# Altium footprint library Sensor_Gsprint.PcbLib: 3 footprints
Each footprint in its own frame and in the unit in brackets; x right, y up, seen from the top. Pads: shape width x height; smd on the part's side, far side on the other; paste and mask are expansions set on the pad; w line width, h text height; cw(c..) or ccw(c..) is an arc to the next point about the centre after c.
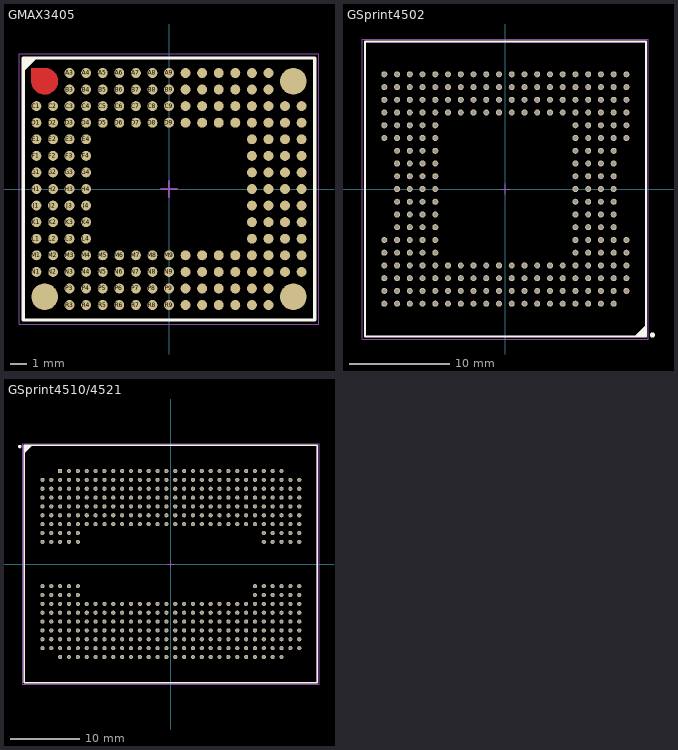
[diagram p0: the footprints below, top view; thin cyan lines are the x and y axes]

## GMAX3405 [mm] "LGA, 81-Leads, Body 17.60x15.80mmx1.80mm, Pitch 1.00mm"
height 1.8
pads (180):
  round 0.6 smd mask+0.1: A3(-6,7) A4(-5,7) A5(-4,7) A6(-3,7) A7(-2,7) A8(-1,7) A9(0,7) A10(1,7) A11(2,7) A12(3,7) A13(4,7) A14(5,7) A15(6,7) B3(-6,6) B4(-5,6) B5(-4,6) B6(-3,6) B7(-2,6) B8(-1,6) B9(0,6) B10(1,6) B11(2,6) B12(3,6) B13(4,6) B14(5,6) B15(6,6) C1(-8,5) C2(-7,5) C3(-6,5) C4(-5,5) C5(-4,5) C6(-3,5) C7(-2,5) C8(-1,5) C9(0,5) C10(1,5) C11(2,5) C12(3,5) C13(4,5) C14(5,5) C15(6,5) C16(7,5) C17(8,5) D1(-8,4) D2(-7,4) D3(-6,4) D4(-5,4) D5(-4,4) D6(-3,4) D7(-2,4) D8(-1,4) D9(0,4) D10(1,4) D11(2,4) D12(3,4) D13(4,4) D14(5,4) D15(6,4) D16(7,4) D17(8,4) E1(-8,3) E2(-7,3) E3(-6,3) E4(-5,3) E14(5,3) E15(6,3) E16(7,3) E17(8,3) F1(-8,2) F2(-7,2) F3(-6,2) F4(-5,2) F14(5,2) F15(6,2) F16(7,2) F17(8,2) G1(-8,1) G2(-7,1) G3(-6,1) G4(-5,1) G14(5,1) G15(6,1) G16(7,1) G17(8,1) H1(-8,0) H2(-7,0) H3(-6,0) H4(-5,0) H14(5,0) H15(6,0) H16(7,0) H17(8,0) J1(-8,-1) J2(-7,-1) J3(-6,-1) J4(-5,-1) J14(5,-1) J15(6,-1) J16(7,-1) J17(8,-1) K1(-8,-2) K2(-7,-2) K3(-6,-2) K4(-5,-2) K14(5,-2) K15(6,-2) K16(7,-2) K17(8,-2) L1(-8,-3) L2(-7,-3) L3(-6,-3) L4(-5,-3) L14(5,-3) L15(6,-3) L16(7,-3) L17(8,-3) M1(-8,-4) M2(-7,-4) M3(-6,-4) M4(-5,-4) M5(-4,-4) M6(-3,-4) M7(-2,-4) M8(-1,-4) M9(0,-4) M10(1,-4) M11(2,-4) M12(3,-4) M13(4,-4) M14(5,-4) M15(6,-4) M16(7,-4) M17(8,-4) N1(-8,-5) N2(-7,-5) N3(-6,-5) N4(-5,-5) N5(-4,-5) N6(-3,-5) N7(-2,-5) N8(-1,-5) N9(0,-5) N10(1,-5) N11(2,-5) N12(3,-5) N13(4,-5) N14(5,-5) N15(6,-5) N16(7,-5) N17(8,-5) P3(-6,-6) P4(-5,-6) P5(-4,-6) P6(-3,-6) P7(-2,-6) P8(-1,-6) P9(0,-6) P10(1,-6) P11(2,-6) P12(3,-6) P13(4,-6) P14(5,-6) P15(6,-6) R3(-6,-7) R4(-5,-7) R5(-4,-7) R6(-3,-7) R7(-2,-7) R8(-1,-7) R9(0,-7) R10(1,-7) R11(2,-7) R12(3,-7) R13(4,-7) R14(5,-7) R15(6,-7)
  round 1.6 smd mask+0.1: ""(-7.5,-6.5) ""(7.5,-6.5) ""(7.5,6.5)
  round 0.025 smd: ""(-7.5,6.5)
Top Layer:
  region: -8.3,6.5 -8.3,6.441 -8.283,6.324 -8.248,6.211 -8.198,6.105 -8.132,6.006 -8.053,5.919 -7.962,5.844 -7.861,5.783 -7.752,5.738 -7.637,5.71 -7.52,5.698 -7.402,5.704 -7.286,5.727 -7.175,5.767 -7.071,5.822 -6.976,5.893 -6.893,5.976 -6.822,6.071 -6.767,6.175 -6.727,6.286 -6.704,6.402 -6.698,6.52 -6.71,6.637 -6.738,6.752 -6.783,6.861 -6.844,6.962 -6.919,7.053 -7.006,7.132 -7.105,7.198 -7.211,7.248 -7.324,7.283 -7.441,7.3 -7.5,7.3 -8.288,7.3 -8.3,7.288
Top Overlay:
  region: -8.09,7.9 -8.8,7.19 -8.8,7.9
  lines w0.2: -8.8,7.19 -8.09,7.9 ; -8.8,-7.9 -8.8,7.9 8.8,7.9 8.8,-7.9 -8.8,-7.9
Mechanical 13:
  lines w0.1: -8.8,-7.9 -8.8,7.9 8.8,7.9 8.8,-7.9 -8.8,-7.9
Mechanical 15:
  lines w0.05: -9.05,-8.15 -9.05,8.15 9.05,8.15 9.05,-8.15 -9.05,-8.15
  lines w0.1: -0.5,0 0.5,0 ; 0,-0.5 0,0.5
3D body "LGA81C100P17X15_1760X1580X180.step": height 1.8, standoff 0, extent -8.8,-7.9 8.8,7.9

## GSprint4502 [mm] "BGA, 380-Leads, Body 28.00x29.40mmx3.50mm, Pitch 1.27mm"
height 3.5
pads (255):
  round 0.6 hole 0.4: A2(10.795,-11.43) A3(9.525,-11.43) A4(8.255,-11.43) A5(6.985,-11.43) A6(5.715,-11.43) A7(4.445,-11.43) A8(3.175,-11.43) A9(1.905,-11.43) A10(0.635,-11.43) A11(-0.635,-11.43) A12(-1.905,-11.43) A13(-3.175,-11.43) A14(-4.445,-11.43) A15(-5.715,-11.43) A16(-6.985,-11.43) A17(-8.255,-11.43) A18(-9.525,-11.43) A19(-10.795,-11.43) A20(-12.065,-11.43) B1(12.065,-10.16) B2(10.795,-10.16) B3(9.525,-10.16) B4(8.255,-10.16) B5(6.985,-10.16) B6(5.715,-10.16) B7(4.445,-10.16) B8(3.175,-10.16) B9(1.905,-10.16) B10(0.635,-10.16) B11(-0.635,-10.16) B12(-1.905,-10.16) B13(-3.175,-10.16) B14(-4.445,-10.16) B15(-5.715,-10.16) B16(-6.985,-10.16) B17(-8.255,-10.16) B18(-9.525,-10.16) B19(-10.795,-10.16) B20(-12.065,-10.16) C1(12.065,-8.89) C2(10.795,-8.89) C3(9.525,-8.89) C4(8.255,-8.89) C5(6.985,-8.89) C6(5.715,-8.89) C7(4.445,-8.89) C8(3.175,-8.89) C9(1.905,-8.89) C10(0.635,-8.89) C11(-0.635,-8.89) C12(-1.905,-8.89) C13(-3.175,-8.89) C14(-4.445,-8.89) C15(-5.715,-8.89) C16(-6.985,-8.89) C17(-8.255,-8.89) C18(-9.525,-8.89) C19(-10.795,-8.89) C20(-12.065,-8.89) D1(12.065,-7.62) D2(10.795,-7.62) D3(9.525,-7.62) D4(8.255,-7.62) D5(6.985,-7.62) D6(5.715,-7.62) D7(4.445,-7.62) D8(3.175,-7.62) D9(1.905,-7.62) D10(0.635,-7.62) D11(-0.635,-7.62) D12(-1.905,-7.62) D13(-3.175,-7.62) D14(-4.445,-7.62) D15(-5.715,-7.62) D16(-6.985,-7.62) D17(-8.255,-7.62) D18(-9.525,-7.62) D19(-10.795,-7.62) D20(-12.065,-7.62) E1(12.065,-6.35) E2(10.795,-6.35) E3(9.525,-6.35) E4(8.255,-6.35) E5(6.985,-6.35) E16(-6.985,-6.35) E17(-8.255,-6.35) E18(-9.525,-6.35) E19(-10.795,-6.35) E20(-12.065,-6.35) F1(12.065,-5.08) F2(10.795,-5.08) F3(9.525,-5.08) F4(8.255,-5.08) F5(6.985,-5.08) F16(-6.985,-5.08) F17(-8.255,-5.08) F18(-9.525,-5.08) F19(-10.795,-5.08) F20(-12.065,-5.08) G2(10.795,-3.81) G3(9.525,-3.81) G4(8.255,-3.81) G5(6.985,-3.81) G16(-6.985,-3.81) G17(-8.255,-3.81) G18(-9.525,-3.81) G19(-10.795,-3.81) H2(10.795,-2.54) H3(9.525,-2.54) H4(8.255,-2.54) H5(6.985,-2.54) H16(-6.985,-2.54) H17(-8.255,-2.54) H18(-9.525,-2.54) H19(-10.795,-2.54) J2(10.795,-1.27) J3(9.525,-1.27) J4(8.255,-1.27) J5(6.985,-1.27) J16(-6.985,-1.27) J17(-8.255,-1.27) J18(-9.525,-1.27) J19(-10.795,-1.27) K2(10.795,0) K3(9.525,0) K4(8.255,0) K5(6.985,0) K16(-6.985,0) K17(-8.255,0) K18(-9.525,0) K19(-10.795,0) L2(10.795,1.27) L3(9.525,1.27) L4(8.255,1.27) L5(6.985,1.27) L16(-6.985,1.27) L17(-8.255,1.27) L18(-9.525,1.27) L19(-10.795,1.27) M2(10.795,2.54) M3(9.525,2.54) M4(8.255,2.54) M5(6.985,2.54) M16(-6.985,2.54) M17(-8.255,2.54) M18(-9.525,2.54) M19(-10.795,2.54) N2(10.795,3.81) N3(9.525,3.81) N4(8.255,3.81) N5(6.985,3.81) N16(-6.985,3.81) N17(-8.255,3.81) N18(-9.525,3.81) N19(-10.795,3.81) P1(12.065,5.08) P2(10.795,5.08) P3(9.525,5.08) P4(8.255,5.08) P5(6.985,5.08) P16(-6.985,5.08) P17(-8.255,5.08) P18(-9.525,5.08) P19(-10.795,5.08) P20(-12.065,5.08) R1(12.065,6.35) R2(10.795,6.35) R3(9.525,6.35) R4(8.255,6.35) R5(6.985,6.35) R16(-6.985,6.35) R17(-8.255,6.35) R18(-9.525,6.35) R19(-10.795,6.35) R20(-12.065,6.35) T1(12.065,7.62) T2(10.795,7.62) T3(9.525,7.62) T4(8.255,7.62) T5(6.985,7.62) T6(5.715,7.62) T7(4.445,7.62) T8(3.175,7.62) T9(1.905,7.62) T10(0.635,7.62) T11(-0.635,7.62) T12(-1.905,7.62) T13(-3.175,7.62) T14(-4.445,7.62) T15(-5.715,7.62) T16(-6.985,7.62) T17(-8.255,7.62) T18(-9.525,7.62) T19(-10.795,7.62) T20(-12.065,7.62) U1(12.065,8.89) U2(10.795,8.89) U3(9.525,8.89) U4(8.255,8.89) U5(6.985,8.89) U6(5.715,8.89) U7(4.445,8.89) U8(3.175,8.89) U9(1.905,8.89) U10(0.635,8.89) U11(-0.635,8.89) U12(-1.905,8.89) U13(-3.175,8.89) U14(-4.445,8.89) U15(-5.715,8.89) U16(-6.985,8.89) U17(-8.255,8.89) U18(-9.525,8.89) U19(-10.795,8.89) U20(-12.065,8.89) V1(12.065,10.16) V2(10.795,10.16) V3(9.525,10.16) V4(8.255,10.16) V5(6.985,10.16) V6(5.715,10.16) V7(4.445,10.16) V8(3.175,10.16) V9(1.905,10.16) V10(0.635,10.16) V11(-0.635,10.16) V12(-1.905,10.16) V13(-3.175,10.16) V14(-4.445,10.16) V15(-5.715,10.16) V16(-6.985,10.16) V17(-8.255,10.16) V18(-9.525,10.16) V19(-10.795,10.16) V20(-12.065,10.16) W1(12.065,11.43) W2(10.795,11.43) W3(9.525,11.43) W4(8.255,11.43) W5(6.985,11.43) W6(5.715,11.43) W7(4.445,11.43) W8(3.175,11.43) W9(1.905,11.43) W10(0.635,11.43) W11(-0.635,11.43) W12(-1.905,11.43) W13(-3.175,11.43) W14(-4.445,11.43) W15(-5.715,11.43) W16(-6.985,11.43) W17(-8.255,11.43) W18(-9.525,11.43) W19(-10.795,11.43) W20(-12.065,11.43)
Top Overlay:
  circle w0.25: c14.65,-14.55 r0.125
  region: 13,-14.7 14,-13.7 14,-14.7
  lines w0.2: 13,-14.7 14,-13.7 ; -14,-14.7 -14,14.7 14,14.7 14,-14.7 -14,-14.7
Mechanical 13:
  lines w0.1: -14,-14.7 -14,14.7 14,14.7 14,-14.7 -14,-14.7
Mechanical 15:
  lines w0.05: -14.25,-14.95 -14.25,14.95 14.25,14.95 14.25,-14.95 -14.25,-14.95
  lines w0.1: -0.5,0 0.5,0 ; 0,-0.5 0,0.5
3D body "GSPRINT4502 COMS.stp": height 4.7, standoff -2.54, extent -14,-14.7 14,14.7

## GSprint4510/4521 [mm] "BGA, 100-Leads, Body 42.00x34.00mmx1.40mm, Pitch 1.27mm"
height 1.4
pads (454):
  rect 0.6x0.6 hole 0.4: A3(-15.875,13.335)
  round 0.6 hole 0.4: A4(-14.605,13.335) A5(-13.335,13.335) A6(-12.065,13.335) A7(-10.795,13.335) A8(-9.525,13.335) A9(-8.255,13.335) A10(-6.985,13.335) A11(-5.715,13.335) A12(-4.445,13.335) A13(-3.175,13.335) A14(-1.905,13.335) A15(-0.635,13.335) A16(0.635,13.335) A17(1.905,13.335) A18(3.175,13.335) A19(4.445,13.335) A20(5.715,13.335) A21(6.985,13.335) A22(8.255,13.335) A23(9.525,13.335) A24(10.795,13.335) A25(12.065,13.335) A26(13.335,13.335) A27(14.605,13.335) A28(15.875,13.335) B1(-18.415,12.065) B2(-17.145,12.065) B3(-15.875,12.065) B4(-14.605,12.065) B5(-13.335,12.065) B6(-12.065,12.065) B7(-10.795,12.065) B8(-9.525,12.065) B9(-8.255,12.065) B10(-6.985,12.065) B11(-5.715,12.065) B12(-4.445,12.065) B13(-3.175,12.065) B14(-1.905,12.065) B15(-0.635,12.065) B16(0.635,12.065) B17(1.905,12.065) B18(3.175,12.065) B19(4.445,12.065) B20(5.715,12.065) B21(6.985,12.065) B22(8.255,12.065) B23(9.525,12.065) B24(10.795,12.065) B25(12.065,12.065) B26(13.335,12.065) B27(14.605,12.065) B28(15.875,12.065) B29(17.145,12.065) B30(18.415,12.065) C1(-18.415,10.795) C2(-17.145,10.795) C3(-15.875,10.795) C4(-14.605,10.795) C5(-13.335,10.795) C6(-12.065,10.795) C7(-10.795,10.795) C8(-9.525,10.795) C9(-8.255,10.795) C10(-6.985,10.795) C11(-5.715,10.795) C12(-4.445,10.795) C13(-3.175,10.795) C14(-1.905,10.795) C15(-0.635,10.795) C16(0.635,10.795) C17(1.905,10.795) C18(3.175,10.795) C19(4.445,10.795) C20(5.715,10.795) C21(6.985,10.795) C22(8.255,10.795) C23(9.525,10.795) C24(10.795,10.795) C25(12.065,10.795) C26(13.335,10.795) C27(14.605,10.795) C28(15.875,10.795) C29(17.145,10.795) C30(18.415,10.795) D1(-18.415,9.525) D2(-17.145,9.525) D3(-15.875,9.525) D4(-14.605,9.525) D5(-13.335,9.525) D6(-12.065,9.525) D7(-10.795,9.525) D8(-9.525,9.525) D9(-8.255,9.525) D10(-6.985,9.525) D11(-5.715,9.525) D12(-4.445,9.525) D13(-3.175,9.525) D14(-1.905,9.525) D15(-0.635,9.525) D16(0.635,9.525) D17(1.905,9.525) D18(3.175,9.525) D19(4.445,9.525) D20(5.715,9.525) D21(6.985,9.525) D22(8.255,9.525) D23(9.525,9.525) D24(10.795,9.525) D25(12.065,9.525) D26(13.335,9.525) D27(14.605,9.525) D28(15.875,9.525) D29(17.145,9.525) D30(18.415,9.525) E1(-18.415,8.255) E2(-17.145,8.255) E3(-15.875,8.255) E4(-14.605,8.255) E5(-13.335,8.255) E6(-12.065,8.255) E7(-10.795,8.255) E8(-9.525,8.255) E9(-8.255,8.255) E10(-6.985,8.255) E11(-5.715,8.255) E12(-4.445,8.255) E13(-3.175,8.255) E14(-1.905,8.255) E15(-0.635,8.255) E16(0.635,8.255) E17(1.905,8.255) E18(3.175,8.255) E19(4.445,8.255) E20(5.715,8.255) E21(6.985,8.255) E22(8.255,8.255) E23(9.525,8.255) E24(10.795,8.255) E25(12.065,8.255) E26(13.335,8.255) E27(14.605,8.255) E28(15.875,8.255) E29(17.145,8.255) E30(18.415,8.255) F1(-18.415,6.985) F2(-17.145,6.985) F3(-15.875,6.985) F4(-14.605,6.985) F5(-13.335,6.985) F6(-12.065,6.985) F7(-10.795,6.985) F8(-9.525,6.985) F9(-8.255,6.985) F10(-6.985,6.985) F11(-5.715,6.985) F12(-4.445,6.985) F13(-3.175,6.985) F14(-1.905,6.985) F15(-0.635,6.985) F16(0.635,6.985) F17(1.905,6.985) F18(3.175,6.985) F19(4.445,6.985) F20(5.715,6.985) F21(6.985,6.985) F22(8.255,6.985) F23(9.525,6.985) F24(10.795,6.985) F25(12.065,6.985) F26(13.335,6.985) F27(14.605,6.985) F28(15.875,6.985) F29(17.145,6.985) F30(18.415,6.985) G1(-18.415,5.715) G2(-17.145,5.715) G3(-15.875,5.715) G4(-14.605,5.715) G5(-13.335,5.715) G6(-12.065,5.715) G7(-10.795,5.715) G8(-9.525,5.715) G9(-8.255,5.715) G10(-6.985,5.715) G11(-5.715,5.715) G12(-4.445,5.715) G13(-3.175,5.715) G14(-1.905,5.715) G15(-0.635,5.715) G16(0.635,5.715) G17(1.905,5.715) G18(3.175,5.715) G19(4.445,5.715) G20(5.715,5.715) G21(6.985,5.715) G22(8.255,5.715) G23(9.525,5.715) G24(10.795,5.715) G25(12.065,5.715) G26(13.335,5.715) G27(14.605,5.715) G28(15.875,5.715) G29(17.145,5.715) G30(18.415,5.715) H1(-18.415,4.445) H2(-17.145,4.445) H3(-15.875,4.445) H4(-14.605,4.445) H5(-13.335,4.445) H26(13.335,4.445) H27(14.605,4.445) H28(15.875,4.445) H29(17.145,4.445) H30(18.415,4.445) J1(-18.415,3.175) J2(-17.145,3.175) J3(-15.875,3.175) J4(-14.605,3.175) J5(-13.335,3.175) J26(13.335,3.175) J27(14.605,3.175) J28(15.875,3.175) J29(17.145,3.175) J30(18.415,3.175) K1(-18.415,-3.175) K2(-17.145,-3.175) K3(-15.875,-3.175) K4(-14.605,-3.175) K5(-13.335,-3.175) K25(12.065,-3.175) K26(13.335,-3.175) K27(14.605,-3.175) K28(15.875,-3.175) K29(17.145,-3.175) K30(18.415,-3.175) L1(-18.415,-4.445) L2(-17.145,-4.445) L3(-15.875,-4.445) L4(-14.605,-4.445) L5(-13.335,-4.445) L25(12.065,-4.445) L26(13.335,-4.445) L27(14.605,-4.445) L28(15.875,-4.445) L29(17.145,-4.445) L30(18.415,-4.445) M1(-18.415,-5.715) M2(-17.145,-5.715) M3(-15.875,-5.715) M4(-14.605,-5.715) M5(-13.335,-5.715) M6(-12.065,-5.715) M7(-10.795,-5.715) M8(-9.525,-5.715) M9(-8.255,-5.715) M10(-6.985,-5.715) M11(-5.715,-5.715) M12(-4.445,-5.715) M13(-3.175,-5.715) M14(-1.905,-5.715) M15(-0.635,-5.715) M16(0.635,-5.715) M17(1.905,-5.715) M18(3.175,-5.715) M19(4.445,-5.715) M20(5.715,-5.715) M21(6.985,-5.715) M22(8.255,-5.715) M23(9.525,-5.715) M24(10.795,-5.715) M25(12.065,-5.715) M26(13.335,-5.715) M27(14.605,-5.715) M28(15.875,-5.715) M29(17.145,-5.715) M30(18.415,-5.715) N1(-18.415,-6.985) N2(-17.145,-6.985) N3(-15.875,-6.985) N4(-14.605,-6.985) N5(-13.335,-6.985) N6(-12.065,-6.985) N7(-10.795,-6.985) N8(-9.525,-6.985) N9(-8.255,-6.985) N10(-6.985,-6.985) N11(-5.715,-6.985) N12(-4.445,-6.985) N13(-3.175,-6.985) N14(-1.905,-6.985) N15(-0.635,-6.985) N16(0.635,-6.985) N17(1.905,-6.985) N18(3.175,-6.985) N19(4.445,-6.985) N20(5.715,-6.985) N21(6.985,-6.985) N22(8.255,-6.985) N23(9.525,-6.985) N24(10.795,-6.985) N25(12.065,-6.985) N26(13.335,-6.985) N27(14.605,-6.985) N28(15.875,-6.985) N29(17.145,-6.985) N30(18.415,-6.985) P1(-18.415,-8.255) P2(-17.145,-8.255) P3(-15.875,-8.255) P4(-14.605,-8.255) P5(-13.335,-8.255) P6(-12.065,-8.255) P7(-10.795,-8.255) P8(-9.525,-8.255) P9(-8.255,-8.255) P10(-6.985,-8.255) P11(-5.715,-8.255) P12(-4.445,-8.255) P13(-3.175,-8.255) P14(-1.905,-8.255) P15(-0.635,-8.255) P16(0.635,-8.255) P17(1.905,-8.255) P18(3.175,-8.255) P19(4.445,-8.255) P20(5.715,-8.255) P21(6.985,-8.255) P22(8.255,-8.255) P23(9.525,-8.255) P24(10.795,-8.255) P25(12.065,-8.255) P26(13.335,-8.255) P27(14.605,-8.255) P28(15.875,-8.255) P29(17.145,-8.255) P30(18.415,-8.255) R1(-18.415,-9.525) R2(-17.145,-9.525) R3(-15.875,-9.525) R4(-14.605,-9.525) R5(-13.335,-9.525) R6(-12.065,-9.525) R7(-10.795,-9.525) R8(-9.525,-9.525) R9(-8.255,-9.525) R10(-6.985,-9.525) R11(-5.715,-9.525) R12(-4.445,-9.525) R13(-3.175,-9.525) R14(-1.905,-9.525) R15(-0.635,-9.525) R16(0.635,-9.525) R17(1.905,-9.525) R18(3.175,-9.525) R19(4.445,-9.525) R20(5.715,-9.525) R21(6.985,-9.525) R22(8.255,-9.525) R23(9.525,-9.525) R24(10.795,-9.525) R25(12.065,-9.525) R26(13.335,-9.525) R27(14.605,-9.525) R28(15.875,-9.525) R29(17.145,-9.525) R30(18.415,-9.525) T1(-18.415,-10.795) T2(-17.145,-10.795) T3(-15.875,-10.795) T4(-14.605,-10.795) T5(-13.335,-10.795) T6(-12.065,-10.795) T7(-10.795,-10.795) T8(-9.525,-10.795) T9(-8.255,-10.795) T10(-6.985,-10.795) T11(-5.715,-10.795) T12(-4.445,-10.795) T13(-3.175,-10.795) T14(-1.905,-10.795) T15(-0.635,-10.795) T16(0.635,-10.795) T17(1.905,-10.795) T18(3.175,-10.795) T19(4.445,-10.795) T20(5.715,-10.795) T21(6.985,-10.795) T22(8.255,-10.795) T23(9.525,-10.795) T24(10.795,-10.795) T25(12.065,-10.795) T26(13.335,-10.795) T27(14.605,-10.795) T28(15.875,-10.795) T29(17.145,-10.795) T30(18.415,-10.795) U1(-18.415,-12.065) U2(-17.145,-12.065) U3(-15.875,-12.065) U4(-14.605,-12.065) U5(-13.335,-12.065) U6(-12.065,-12.065) U7(-10.795,-12.065) U8(-9.525,-12.065) U9(-8.255,-12.065) U10(-6.985,-12.065) U11(-5.715,-12.065) U12(-4.445,-12.065) U13(-3.175,-12.065) U14(-1.905,-12.065) U15(-0.635,-12.065) U16(0.635,-12.065) U17(1.905,-12.065) U18(3.175,-12.065) U19(4.445,-12.065) U20(5.715,-12.065) U21(6.985,-12.065) U22(8.255,-12.065) U23(9.525,-12.065) U24(10.795,-12.065) U25(12.065,-12.065) U26(13.335,-12.065) U27(14.605,-12.065) U28(15.875,-12.065) U29(17.145,-12.065) U30(18.415,-12.065) V3(-15.875,-13.335) V4(-14.605,-13.335) V5(-13.335,-13.335) V6(-12.065,-13.335) V7(-10.795,-13.335) V8(-9.525,-13.335) V9(-8.255,-13.335) V10(-6.985,-13.335) V11(-5.715,-13.335) V12(-4.445,-13.335) V13(-3.175,-13.335) V14(-1.905,-13.335) V15(-0.635,-13.335) V16(0.635,-13.335) V17(1.905,-13.335) V18(3.175,-13.335) V19(4.445,-13.335) V20(5.715,-13.335) V21(6.985,-13.335) V22(8.255,-13.335) V23(9.525,-13.335) V24(10.795,-13.335) V25(12.065,-13.335) V26(13.335,-13.335) V27(14.605,-13.335) V28(15.875,-13.335)
Top Overlay:
  circle w0.25: c-21.65,16.85 r0.125
  region: -20,17 -21,16 -21,17
  lines w0.2: -21,16 -20,17 ; -21,-17 21,-17 21,17 -21,17 -21,-17
Mechanical 13:
  lines w0.1: -21,-17 21,-17 21,17 -21,17 -21,-17
Mechanical 15:
  lines w0.05: -21.25,-17.25 21.25,-17.25 21.25,17.25 -21.25,17.25 -21.25,-17.25
  lines w0.1: -0.5,0 0.5,0 ; 0,-0.5 0,0.5
3D body "BGA100C127P30X18_4200X3400X140.step": height 1.4, standoff 0, extent -21,-17 21,17